# Altium footprint library 61031221821.PcbLib: 1 footprints
Each footprint in its own frame and in the unit in brackets; x right, y up, seen from the top. Pads: shape width x height; smd on the part's side, far side on the other; paste and mask are expansions set on the pad; w line width, h text height; cw(c..) or ccw(c..) is an arc to the next point about the centre after c.
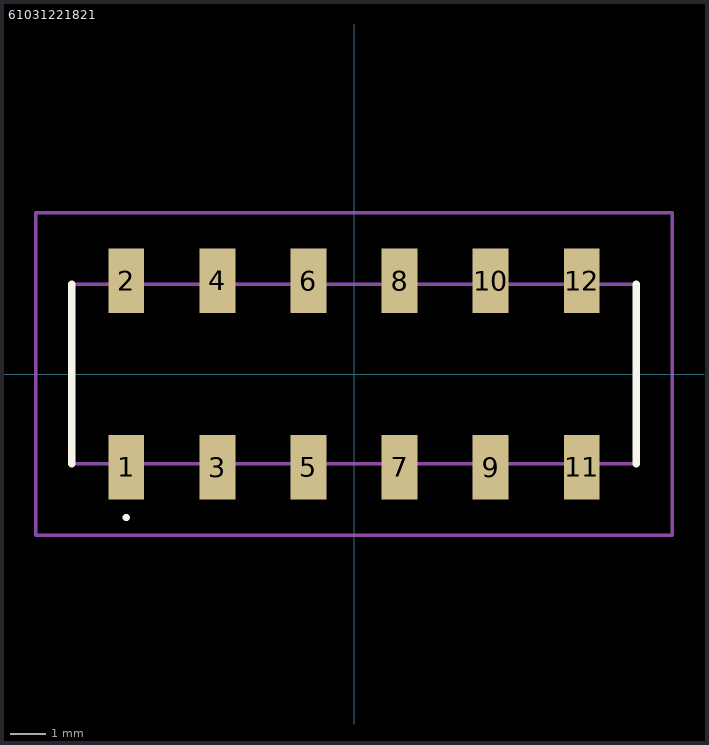
[diagram p0: the footprint, top view; thin cyan lines are the x and y axes]

## 61031221821 [mm]
pads (12):
  rect 1x1.8 smd: 1(-6.35,-2.6) 2(-6.35,2.6) 3(-3.81,-2.6) 4(-3.81,2.6) 5(-1.27,-2.6) 6(-1.27,2.6) 7(1.27,-2.6) 8(1.27,2.6) 9(3.81,-2.6) 10(3.81,2.6) 11(6.35,-2.6) 12(6.35,2.6)
Top Overlay:
  lines w0.1: -6.4,-4 cw(c-6.35,-4) -6.3,-4 ; -6.4,-4 -6.4,-4 ; -6.4,-4 ccw(c-6.35,-4) -6.3,-4 ; -6.3,-4 -6.3,-4
  lines w0.2: -7.87,-2.5 -7.87,2.5 ; 7.87,-2.5 7.87,2.5
Mechanical 15:
  lines w0.1: -7.87,-2.5 7.87,-2.5 7.87,2.5 -7.87,2.5 -7.87,-2.5
Mechanical 20:
  lines w0.1: -8.87,-4.5 8.87,-4.5 8.87,4.5 -8.87,4.5 -8.87,-4.5